# EAGLE library part LED-APA102 (library GreatBigFactory)
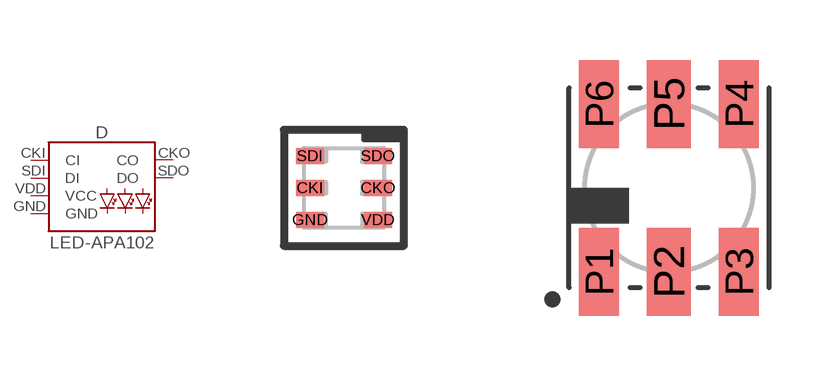
[diagram p0: symbol with the pads of APA102-2020; footprints APA102-2020, APA102-5050]

Designator prefix D

## LED-APA102-2020 (GREATBIGFACTORY: 1)  [APA102-2020]
CKI  CI
CKO  CO
GND  GND
SDI  DI
SDO  DO
VDD  VCC

## LED-APA102-5050 (GREATBIGFACTORY: 1)  [APA102-5050]
P1  DI
P2  CI
P3  GND
P4  VCC
P5  CO
P6  DO

## Footprint APA102-2020 (pad centres in mm)
APA102-2020 Specifications: Pin count: 8 Size: 2.0 x 2.0 mm Datasheet referenced for footprint: APA102-2020 <https://cdn.sparkfun.com/assets/home_page_posts/2/3/9/8/APA102-2020_1.pdf>
smd 0.7 x 0.4: CKI -0.85,0; CKO 0.85,0; GND -0.85,-0.8; SDI -0.85,0.8; SDO 0.85,0.8; VDD 0.85,-0.8

## Footprint APA102-5050 (pad centres in mm)
APA102C Specifications: Pin count: 6 Size: 5.0 x 5.0 mm Datasheet referenced for footprint: APA102C <https://cdn.sparkfun.com/datasheets/Components/LED/APA102C.pdf>
smd 1 x 2.2: P1 -1.75,-2.1; P3 1.75,-2.1; P4 1.75,2.1; P6 -1.75,2.1
smd 1.1 x 2.2: P2 0,-2.1; P5 0,2.1